# Altium integrated library Keystone_2468.IntLib: 1 symbol
Pins are listed as number, name and electrical type; pins without a type are passive.

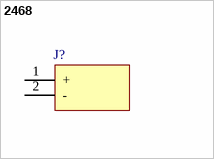
[diagram p0: symbol 2468]

## 2468
designator J?
Cylindrical Battery Contacts, Clips, Holders & Springs 2AAA PC MNT HOLDER; Manufacturer_Name: Keystone Electronics; Manufacturer_Part_Number: 2468; Mouser Part Number: 534-2468; Mouser Price/Stock: https://www.mouser.co.uk/ProductDetail/Keystone-Electronics/2468?qs=3CbvriavsLAoISGi3MywrQ%3D%3D; Arrow Part Number: 2468; Arrow Price/Stock: http://www.arrow.com/en/products/2468/keystone-electronics-corp; Mouser Testing Part Number: *; Mouser Testing Price/Stock: *; Datasheet Link: https://datasheet.datasheetarchive.com/originals/distributors/Datasheets-AE/DSA3AE00005.pdf
footprint 2468_3D_Generic
footprint 2468_3D_Keystone
pins: 1 + (power), 2 - (power)